# Altium footprint library LibSTM.PcbLib: 17 footprints (part 2 of 2)
Each footprint in its own frame and in the unit in brackets; x right, y up, seen from the top. Pads: shape width x height; smd on the part's side, far side on the other; paste and mask are expansions set on the pad; w line width, h text height; cw(c..) or ccw(c..) is an arc to the next point about the centre after c.
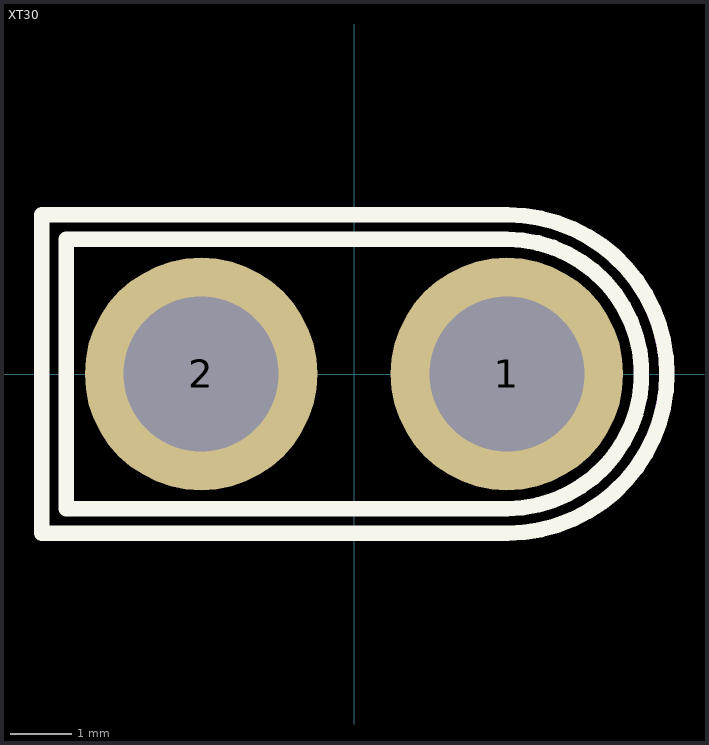
[diagram p1: the footprint, top view; thin cyan lines are the x and y axes]

## XT30 [mm]
pads (2):
  round 3.8 hole 2.54: 1(2.495,0.001) 2(-2.505,0.001)
Top Overlay:
  lines w0.254: 2.495,2.201 cw(c2.495,0.001) 2.496,-2.199 ; 2.495,2.201 1.995,2.201 -4.705,2.201 -4.705,-2.199 1.995,-2.199 2.496,-2.199 ; 2.495,2.201 2.495,2.201 ; 2.496,-2.199 2.496,-2.199 ; -5.105,-2.599 -5.105,2.601 2.509,2.601 cw(c2.509,0.001) 2.509,-2.599 -5.105,-2.599
Mechanical 15:
  region: 4.995,0.001 4.983,0.246 4.887,0.727 4.7,1.179 4.428,1.587 4.081,1.934 3.673,2.206 3.221,2.393 2.74,2.489 2.495,2.501 2.495,2.701 2.672,2.701 3.023,2.655 3.365,2.563 3.692,2.428 3.998,2.251 4.279,2.035 4.529,1.785 4.745,1.504 4.922,1.198 5.057,0.871 5.149,0.529 5.195,0.178 5.195,0.001
  region: 2.495,-2.499 2.74,-2.487 3.221,-2.391 3.673,-2.204 4.081,-1.932 4.428,-1.585 4.7,-1.177 4.887,-0.725 4.983,-0.244 4.995,0.001 5.195,0.001 5.195,-0.176 5.149,-0.527 5.057,-0.869 4.922,-1.196 4.745,-1.502 4.529,-1.783 4.279,-2.033 3.998,-2.249 3.692,-2.426 3.365,-2.561 3.023,-2.653 2.672,-2.699 2.495,-2.699
  region: 2.495,2.701 -5.105,2.701 -5.205,2.601 -5.205,-2.599 -5.105,-2.699 2.495,-2.699 2.495,-2.499 -5.005,-2.499 -5.005,2.501 2.495,2.501
3D body "User Library-xt30upb-m.STEP": height 9.4, standoff -2, extent -5.1,-2.595 5.1,2.605